# Altium integrated library Semiconductors.IntLib: 3 symbols
Pins are listed as number, name and electrical type; pins without a type are passive.

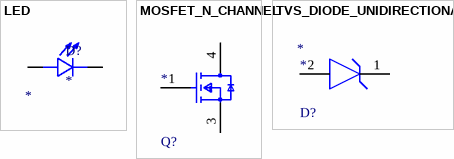
[diagram p0: symbols LED to TVS_DIODE_UNIDIRECTIONAL]

## LED
designator D?
GENERIC LED; MPN: *; Forward Voltage: *; Package: *; Color: *
footprint LED_0603
footprint LED_0402
pins: 1 C, 2 A

## MOSFET_N_CHANNEL
designator Q?
GENERIC MOSFET N CHANNEL; ComponentLink2URL: https://www.infineon.com/dgdl/Infineon-IPB020N10N5LF-DS-v02_01-EN.pdf?fileId=5546d46259d9a4bf015a5b253d4c3c67; ComponentLink2Description: Datasheet
footprint FP-PG-TO263-3-MFG
pins: 1 G, 3 S, 4 D

## TVS_DIODE_UNIDIRECTIONAL
designator D?
GENERIC TVS DIODE UNIDIRECTIONAL; Peak Pulse Current: *; Peak Pulse Power: *; Case/Package: *; Leakage Current: *; Breakdown Voltage: *; Operating Supply Voltage: *; Reverse Standoff Voltage: *; Min Breakdown Voltage: *; Max Surge Current: *; Reverse Breakdown Voltage: *; Polarity: Unidirectional; Clamping Voltage: *
footprint DO-214AB (DO-214AB / SMC)
pins: 1 C, 2 A